# Altium schematic symbol library FG16X5R1E336MRT06.SchLib: 1 symbol
Pins are listed as number, name and electrical type; pins without a type are passive.

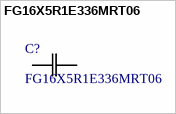
[diagram p0: symbol FG16X5R1E336MRT06]

## FG16X5R1E336MRT06
designator C?
No Description Available; Manufacturer_Name: TDK; Copyright: Copyright (C) 2026 Ultra Librarian. All rights reserved.; Manufacturer_Part_Number: FG16X5R1E336MRT06
footprint CAP_FG16X5R1E336MRT06_TDK
pins: 1, 2